# EAGLE library part NE5532DRG4 (library NE5532DRG4)
Dual Low-Noise High-Speed Audio Operational Amplifier Source: Datasheet <http://www.ti.com/lit/gpn/NE5532>
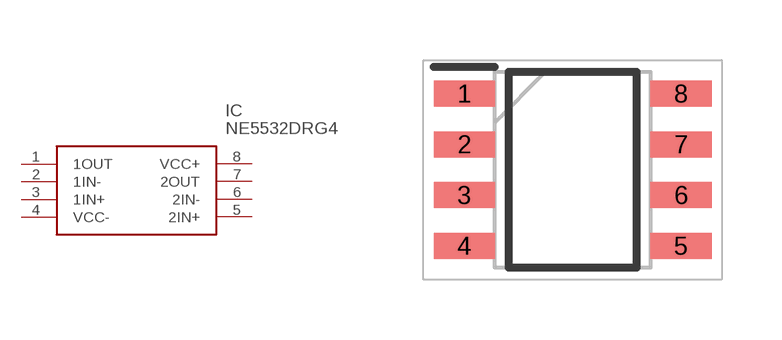
[diagram p0: symbol with the pads of SOIC127P600X175-8N; footprint SOIC127P600X175-8N]

Designator prefix IC

## NE5532DRG4 (Arrow_Part_Number: NE5532DRG4; Arrow_Price-Stock: https://www.arrow.com/en/products/ne5532drg4/texas-instruments?region=nac; Description: Dual Low-Noise High-Speed Audio Operational Amplifier; Height: 1.75mm; Manufacturer_Name: Texas Instruments; Manufacturer_Part_Number: NE5532DRG4; Mouser_Part_Number: 595-NE5532DRG4; Mouser_Price-Stock: https://www.mouser.co.uk/ProductDetail/Texas-Instruments/NE5532DRG4?qs=7nS3%252BbEUL6tX45LGZbPLFw%3D%3D)  [SOIC127P600X175-8N]
1  1OUT
2  1IN-
3  1IN+
4  VCC-
5  2IN+
6  2IN-
7  2OUT
8  VCC+

## Footprint SOIC127P600X175-8N (pad centres in mm)
D0008A
smd 1.528 x 0.65: 1 -2.711,1.905; 2 -2.711,0.635; 3 -2.711,-0.635; 4 -2.711,-1.905; 5 2.711,-1.905; 6 2.711,-0.635; 7 2.711,0.635; 8 2.711,1.905